# EAGLE library part NXP_MFRC52202HN1,151 (library Upverter Library)
IC RFID READER 13.56MHZ 32HVQFN
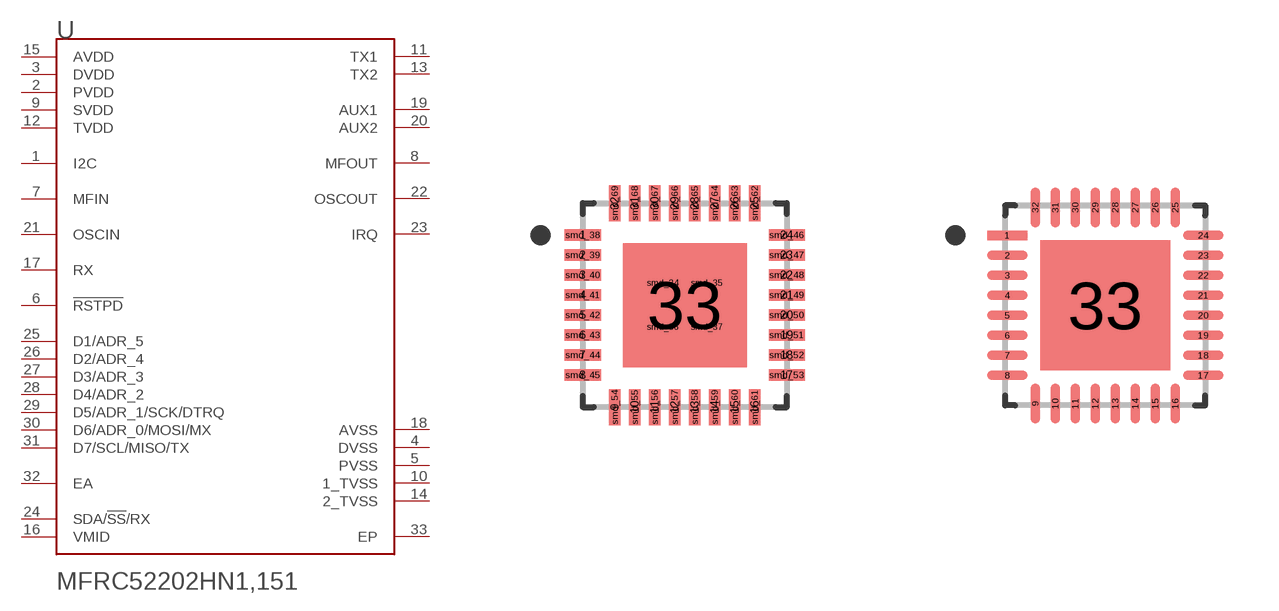
[diagram p0: symbol with the pads of NXP_MFRC52202HN1,151_0; footprints NXP_MFRC52202HN1,151_0, NXP_MFRC52202HN1,151_1]

Designator prefix U

## NXP_MFRC52202HN1,151NXP_MFRC52202HN1,151_0_0 (MF: NXP; MPN: MFRC52202HN1,151; ambient_temperature_range_high: +85°C; ambient_temperature_range_low: -25°C; automotive: No; centroid_not_specified: No; data_rate: 10Mbits/s; datasheet: https://www.nxp.com/docs/en/data-sheet/MFRC522.pdf; device_class_L1: Integrated Circuits (ICs); device_class_L2: RF Semiconductors and Devices; device_class_L3: Transceivers; digikey_description: IC RFID READER 13.56MHZ 32HVQFN; digikey_part_number: 568-8603-ND; footprint_parameters_1: {"fp_type":"QFN","params":{"N1":{"nom":8,"long name":"Leads on long side","min":null,"max":null,"short name":"N1","type":"count"},"N2":{"nom":8,"long name":"Leads on wide side","min":null,"max":null,"short name":"N2","type":"count"},"A":{"nom":false,"long name":"Height","min":false,"max":1000000,"short name":"A","type":"measurement"},"A1":{"nom":false,"long name":"Package clearance","min":0,"max":50000,"short name":"A1","type":"measurement"},"A2":{"nom":false,"long name":"Package height","min":false,"max":1000000,"short name":"A2","type":"measurement"},"D":{"nom":false,"long name":"Package length","min":4900000,"max":5100000,"short name":"D","type":"measurement"},"E":{"nom":false,"long name":"Package width","min":4900000,"max":5100000,"short name":"E","type":"measurement"},"B":{"nom":false,"long name":"Lead width","min":180000,"max":300000,"short name":"B","type":"measurement"},"C":{"nom":200000,"long name":"Lead thickness","min":null,"max":null,"short name":"C","type":"measurement"},"L":{"nom":false,"long name":"Lead foot length","min":300000,"max":500000,"short name":"L","type":"measurement"},"e":{"nom":500000,"long name":"Lead pitch","min":null,"max":null,"short name":"e","type":"measurement"},"HT":{"default":"Yes","long name":"Thermal pad","type":"multichoiceparent","short name":"HT","children":["D2","E2","PC"]},"offset x":{"nom":0,"long name":"X Center offset","min":null,"max":null,"short name":"offset x","type":"measurement"},"offset y":{"nom":0,"long name":"Y Center offset","min":null,"max":null,"short name":"offset y","type":"measurement"},"LS":{"default":"Rounded rectangle","long name":"Land shape","type":"multichoice","short name":"LS"},"LS1":{"default":"Rectangle","long name":"Land shape (Pin 1)","type":"multichoice","short name":"LS1"},"solder toe":{"nom":400000,"long name":"Solder fillet (toe)","min":null,"max":null,"short name":"solder toe","type":"fixedmeasurement"},"solder heel":{"nom":0,"long name":"Solder fillet (heel)","min":null,"max":null,"short name":"solder heel","type":"fixedmeasurement"},"solder side":{"nom":-40000,"long name":"Solder fillet (side)","min":null,"max":null,"short name":"solder side","type":"fixedmeasurement"},"courtyard":{"nom":500000,"long name":"Courtyard","min":null,"max":null,"short name":"courtyard","type":"fixedmeasurement"},"SF":{"default":"A","long name":"Packing level","type":"multichoiceparent","short name":"SF","help":"http://support.upverter.com/customer/portal/articles/978783-what-is-a-footprint-packing-level","children":["solder toe","solder heel","solder side","courtyard"]},"D2":{"nom":false,"long name":"Thermal pad length","min":2950000,"max":3250000,"short name":"D2","type":"measurement"},"E2":{"nom":false,"long name":"Thermal pad width","min":2950000,"max":3250000,"short name":"E2","type":"measurement"},"PC":{"long name":"Paste coverage (%)","type":"percentage","short name":"PC","value":40}}}; footprint_parameters_2: {"fp_type":"QFN","params":{"N1":{"nom":8,"long name":"Leads on long side","min":null,"max":null,"short name":"N1","type":"count"},"N2":{"nom":8,"long name":"Leads on wide side","min":null,"max":null,"short name":"N2","type":"count"},"A":{"nom":false,"long name":"Height","min":false,"max":1000000,"short name":"A","type":"measurement"},"A1":{"nom":false,"long name":"Package clearance","min":0,"max":50000,"short name":"A1","type":"measurement"},"A2":{"nom":false,"long name":"Package height","min":false,"max":1000000,"short name":"A2","type":"measurement"},"D":{"nom":false,"long name":"Package length","min":4900000,"max":5100000,"short name":"D","type":"measurement"},"E":{"nom":false,"long name":"Package width","min":4900000,"max":5100000,"short name":"E","type":"measurement"},"B":{"nom":false,"long name":"Lead width","min":180000,"max":300000,"short name":"B","type":"measurement"},"C":{"nom":200000,"long name":"Lead thickness","min":null,"max":null,"short name":"C","type":"measurement"},"L":{"nom":false,"long name":"Lead foot length","min":300000,"max":500000,"short name":"L","type":"measurement"},"e":{"nom":500000,"long name":"Lead pitch","min":null,"max":null,"short name":"e","type":"measurement"},"D2":{"nom":false,"long name":"Thermal pad length","min":2950000,"max":3250000,"short name":"D2","type":"measurement"},"E2":{"nom":false,"long name":"Thermal pad width","min":2950000,"max":3250000,"short name":"E2","type":"measurement"},"PC":{"long name":"Paste coverage (%)","type":"percentage","short name":"PC","value":40},"HT":{"default":"Yes","long name":"Thermal pad","type":"multichoiceparent","short name":"HT","children":["D2","E2","PC"]},"offset x":{"nom":0,"long name":"X Center offset","min":null,"max":null,"short name":"offset x","type":"measurement"},"offset y":{"nom":0,"long name":"Y Center offset","min":null,"max":null,"short name":"offset y","type":"measurement"},"LS":{"default":"Rounded rectangle","long name":"Land shape","type":"multichoice","short name":"LS"},"LS1":{"default":"Rectangle","long name":"Land shape (Pin 1)","type":"multichoice","short name":"LS1"},"solder toe":{"nom":300000,"long name":"Solder fillet (toe)","min":null,"max":null,"short name":"solder toe","type":"fixedmeasurement"},"solder heel":{"nom":0,"long name":"Solder fillet (heel)","min":null,"max":null,"short name":"solder heel","type":"fixedmeasurement"},"solder side":{"nom":-40000,"long name":"Solder fillet (side)","min":null,"max":null,"short name":"solder side","type":"fixedmeasurement"},"courtyard":{"nom":250000,"long name":"Courtyard","min":null,"max":null,"short name":"courtyard","type":"fixedmeasurement"},"SF":{"default":"B","long name":"Packing level","type":"multichoiceparent","short name":"SF","help":"http://support.upverter.com/customer/portal/articles/978783-what-is-a-footprint-packing-level","children":["solder toe","solder heel","solder side","courtyard"]}}}; footprint_parameters_3: {"fp_type":"QFN","params":{"N1":{"nom":8,"long name":"Leads on long side","min":null,"max":null,"short name":"N1","type":"count"},"N2":{"nom":8,"long name":"Leads on wide side","min":null,"max":null,"short name":"N2","type":"count"},"A":{"nom":false,"long name":"Height","min":false,"max":1000000,"short name":"A","type":"measurement"},"A1":{"nom":false,"long name":"Package clearance","min":0,"max":50000,"short name":"A1","type":"measurement"},"A2":{"nom":false,"long name":"Package height","min":false,"max":1000000,"short name":"A2","type":"measurement"},"D":{"nom":false,"long name":"Package length","min":4900000,"max":5100000,"short name":"D","type":"measurement"},"E":{"nom":false,"long name":"Package width","min":4900000,"max":5100000,"short name":"E","type":"measurement"},"B":{"nom":false,"long name":"Lead width","min":180000,"max":300000,"short name":"B","type":"measurement"},"C":{"nom":200000,"long name":"Lead thickness","min":null,"max":null,"short name":"C","type":"measurement"},"L":{"nom":false,"long name":"Lead foot length","min":300000,"max":500000,"short name":"L","type":"measurement"},"e":{"nom":500000,"long name":"Lead pitch","min":null,"max":null,"short name":"e","type":"measurement"},"D2":{"nom":false,"long name":"Thermal pad length","min":2950000,"max":3250000,"short name":"D2","type":"measurement"},"E2":{"nom":false,"long name":"Thermal pad width","min":2950000,"max":3250000,"short name":"E2","type":"measurement"},"PC":{"long name":"Paste coverage (%)","type":"percentage","short name":"PC","value":40},"HT":{"default":"Yes","long name":"Thermal pad","type":"multichoiceparent","short name":"HT","children":["D2","E2","PC"]},"offset x":{"nom":0,"long name":"X Center offset","min":null,"max":null,"short name":"offset x","type":"measurement"},"offset y":{"nom":0,"long name":"Y Center offset","min":null,"max":null,"short name":"offset y","type":"measurement"},"LS":{"default":"Rounded rectangle","long name":"Land shape","type":"multichoice","short name":"LS"},"LS1":{"default":"Rectangle","long name":"Land shape (Pin 1)","type":"multichoice","short name":"LS1"},"solder toe":{"nom":200000,"long name":"Solder fillet (toe)","min":null,"max":null,"short name":"solder toe","type":"fixedmeasurement"},"solder heel":{"nom":0,"long name":"Solder fillet (heel)","min":null,"max":null,"short name":"solder heel","type":"fixedmeasurement"},"solder side":{"nom":-40000,"long name":"Solder fillet (side)","min":null,"max":null,"short name":"solder side","type":"fixedmeasurement"},"courtyard":{"nom":100000,"long name":"Courtyard","min":null,"max":null,"short name":"courtyard","type":"fixedmeasurement"},"SF":{"default":"C","long name":"Packing level","type":"multichoiceparent","short name":"SF","help":"http://support.upverter.com/customer/portal/articles/978783-what-is-a-footprint-packing-level","children":["solder toe","solder heel","solder side","courtyard"]}}}; footprint_url: https://www.nxp.com/docs/en/package-information/SOT617-1.pdf; footprint_variant_name_0: Recommended_Land_Pattern; footprint_variant_name_1: IPC_A; footprint_variant_name_2: IPC_B; footprint_variant_name_3: IPC_C; height: 1mm; interface: I2C,SPI,UART,RS-232; lead_free: Yes; max_frequency: 13.56MHz; max_junction_temp: +100°C; max_power_dissipation: 200mW; max_supply_voltage: 3.6V; mfg_package_ident: SOT617-1; mfg_package_ident_date: 02/2016; mfg_package_ident_rev: 0; min_supply_voltage: 1.6V; mouser_description: RFID Transponders CONTACTLESS READER IC; mouser_part_number: 771-MFRC52202HN1151; nominal_supply_current: 3-60mA; package: VQFN32; prefix: U; rohs: Yes; standoff_height: 0mm; temperature_range_high: +100°C; verification_version: 0.0.0.3)  [NXP_MFRC52202HN1,151_0]
1  I2C  in
2  PVDD  pwr
3  DVDD  pwr
4  DVSS  pwr
5  PVSS  pwr
6  !RSTPD!  in
7  MFIN  in
8  MFOUT  out
9  SVDD  pwr
10  1_TVSS  pwr
11  TX1  out
12  TVDD  pwr
13  TX2  out
14  2_TVSS  pwr
15  AVDD  pwr
16  VMID  pwr
17  RX  in
18  AVSS  pwr
19  AUX1  out
20  AUX2  out
21  OSCIN  in
22  OSCOUT  out
23  IRQ  out
24  SDA/!SS!/RX
25  D1/ADR_5
26  D2/ADR_4
27  D3/ADR_3
28  D4/ADR_2
29  D5/ADR_1/SCK/DTRQ
30  D6/ADR_0/MOSI/MX
31  D7/SCL/MISO/TX
32  EA  in
33  EP  pwr

## NXP_MFRC52202HN1,151NXP_MFRC52202HN1,151_0_1 (MF: NXP; MPN: MFRC52202HN1,151; ambient_temperature_range_high: +85°C; ambient_temperature_range_low: -25°C; automotive: No; centroid_not_specified: No; data_rate: 10Mbits/s; datasheet: https://www.nxp.com/docs/en/data-sheet/MFRC522.pdf; device_class_L1: Integrated Circuits (ICs); device_class_L2: RF Semiconductors and Devices; device_class_L3: Transceivers; digikey_description: IC RFID READER 13.56MHZ 32HVQFN; digikey_part_number: 568-8603-ND; footprint_parameters_1: {"fp_type":"QFN","params":{"N1":{"nom":8,"long name":"Leads on long side","min":null,"max":null,"short name":"N1","type":"count"},"N2":{"nom":8,"long name":"Leads on wide side","min":null,"max":null,"short name":"N2","type":"count"},"A":{"nom":false,"long name":"Height","min":false,"max":1000000,"short name":"A","type":"measurement"},"A1":{"nom":false,"long name":"Package clearance","min":0,"max":50000,"short name":"A1","type":"measurement"},"A2":{"nom":false,"long name":"Package height","min":false,"max":1000000,"short name":"A2","type":"measurement"},"D":{"nom":false,"long name":"Package length","min":4900000,"max":5100000,"short name":"D","type":"measurement"},"E":{"nom":false,"long name":"Package width","min":4900000,"max":5100000,"short name":"E","type":"measurement"},"B":{"nom":false,"long name":"Lead width","min":180000,"max":300000,"short name":"B","type":"measurement"},"C":{"nom":200000,"long name":"Lead thickness","min":null,"max":null,"short name":"C","type":"measurement"},"L":{"nom":false,"long name":"Lead foot length","min":300000,"max":500000,"short name":"L","type":"measurement"},"e":{"nom":500000,"long name":"Lead pitch","min":null,"max":null,"short name":"e","type":"measurement"},"HT":{"default":"Yes","long name":"Thermal pad","type":"multichoiceparent","short name":"HT","children":["D2","E2","PC"]},"offset x":{"nom":0,"long name":"X Center offset","min":null,"max":null,"short name":"offset x","type":"measurement"},"offset y":{"nom":0,"long name":"Y Center offset","min":null,"max":null,"short name":"offset y","type":"measurement"},"LS":{"default":"Rounded rectangle","long name":"Land shape","type":"multichoice","short name":"LS"},"LS1":{"default":"Rectangle","long name":"Land shape (Pin 1)","type":"multichoice","short name":"LS1"},"solder toe":{"nom":400000,"long name":"Solder fillet (toe)","min":null,"max":null,"short name":"solder toe","type":"fixedmeasurement"},"solder heel":{"nom":0,"long name":"Solder fillet (heel)","min":null,"max":null,"short name":"solder heel","type":"fixedmeasurement"},"solder side":{"nom":-40000,"long name":"Solder fillet (side)","min":null,"max":null,"short name":"solder side","type":"fixedmeasurement"},"courtyard":{"nom":500000,"long name":"Courtyard","min":null,"max":null,"short name":"courtyard","type":"fixedmeasurement"},"SF":{"default":"A","long name":"Packing level","type":"multichoiceparent","short name":"SF","help":"http://support.upverter.com/customer/portal/articles/978783-what-is-a-footprint-packing-level","children":["solder toe","solder heel","solder side","courtyard"]},"D2":{"nom":false,"long name":"Thermal pad length","min":2950000,"max":3250000,"short name":"D2","type":"measurement"},"E2":{"nom":false,"long name":"Thermal pad width","min":2950000,"max":3250000,"short name":"E2","type":"measurement"},"PC":{"long name":"Paste coverage (%)","type":"percentage","short name":"PC","value":40}}}; footprint_parameters_2: {"fp_type":"QFN","params":{"N1":{"nom":8,"long name":"Leads on long side","min":null,"max":null,"short name":"N1","type":"count"},"N2":{"nom":8,"long name":"Leads on wide side","min":null,"max":null,"short name":"N2","type":"count"},"A":{"nom":false,"long name":"Height","min":false,"max":1000000,"short name":"A","type":"measurement"},"A1":{"nom":false,"long name":"Package clearance","min":0,"max":50000,"short name":"A1","type":"measurement"},"A2":{"nom":false,"long name":"Package height","min":false,"max":1000000,"short name":"A2","type":"measurement"},"D":{"nom":false,"long name":"Package length","min":4900000,"max":5100000,"short name":"D","type":"measurement"},"E":{"nom":false,"long name":"Package width","min":4900000,"max":5100000,"short name":"E","type":"measurement"},"B":{"nom":false,"long name":"Lead width","min":180000,"max":300000,"short name":"B","type":"measurement"},"C":{"nom":200000,"long name":"Lead thickness","min":null,"max":null,"short name":"C","type":"measurement"},"L":{"nom":false,"long name":"Lead foot length","min":300000,"max":500000,"short name":"L","type":"measurement"},"e":{"nom":500000,"long name":"Lead pitch","min":null,"max":null,"short name":"e","type":"measurement"},"D2":{"nom":false,"long name":"Thermal pad length","min":2950000,"max":3250000,"short name":"D2","type":"measurement"},"E2":{"nom":false,"long name":"Thermal pad width","min":2950000,"max":3250000,"short name":"E2","type":"measurement"},"PC":{"long name":"Paste coverage (%)","type":"percentage","short name":"PC","value":40},"HT":{"default":"Yes","long name":"Thermal pad","type":"multichoiceparent","short name":"HT","children":["D2","E2","PC"]},"offset x":{"nom":0,"long name":"X Center offset","min":null,"max":null,"short name":"offset x","type":"measurement"},"offset y":{"nom":0,"long name":"Y Center offset","min":null,"max":null,"short name":"offset y","type":"measurement"},"LS":{"default":"Rounded rectangle","long name":"Land shape","type":"multichoice","short name":"LS"},"LS1":{"default":"Rectangle","long name":"Land shape (Pin 1)","type":"multichoice","short name":"LS1"},"solder toe":{"nom":300000,"long name":"Solder fillet (toe)","min":null,"max":null,"short name":"solder toe","type":"fixedmeasurement"},"solder heel":{"nom":0,"long name":"Solder fillet (heel)","min":null,"max":null,"short name":"solder heel","type":"fixedmeasurement"},"solder side":{"nom":-40000,"long name":"Solder fillet (side)","min":null,"max":null,"short name":"solder side","type":"fixedmeasurement"},"courtyard":{"nom":250000,"long name":"Courtyard","min":null,"max":null,"short name":"courtyard","type":"fixedmeasurement"},"SF":{"default":"B","long name":"Packing level","type":"multichoiceparent","short name":"SF","help":"http://support.upverter.com/customer/portal/articles/978783-what-is-a-footprint-packing-level","children":["solder toe","solder heel","solder side","courtyard"]}}}; footprint_parameters_3: {"fp_type":"QFN","params":{"N1":{"nom":8,"long name":"Leads on long side","min":null,"max":null,"short name":"N1","type":"count"},"N2":{"nom":8,"long name":"Leads on wide side","min":null,"max":null,"short name":"N2","type":"count"},"A":{"nom":false,"long name":"Height","min":false,"max":1000000,"short name":"A","type":"measurement"},"A1":{"nom":false,"long name":"Package clearance","min":0,"max":50000,"short name":"A1","type":"measurement"},"A2":{"nom":false,"long name":"Package height","min":false,"max":1000000,"short name":"A2","type":"measurement"},"D":{"nom":false,"long name":"Package length","min":4900000,"max":5100000,"short name":"D","type":"measurement"},"E":{"nom":false,"long name":"Package width","min":4900000,"max":5100000,"short name":"E","type":"measurement"},"B":{"nom":false,"long name":"Lead width","min":180000,"max":300000,"short name":"B","type":"measurement"},"C":{"nom":200000,"long name":"Lead thickness","min":null,"max":null,"short name":"C","type":"measurement"},"L":{"nom":false,"long name":"Lead foot length","min":300000,"max":500000,"short name":"L","type":"measurement"},"e":{"nom":500000,"long name":"Lead pitch","min":null,"max":null,"short name":"e","type":"measurement"},"D2":{"nom":false,"long name":"Thermal pad length","min":2950000,"max":3250000,"short name":"D2","type":"measurement"},"E2":{"nom":false,"long name":"Thermal pad width","min":2950000,"max":3250000,"short name":"E2","type":"measurement"},"PC":{"long name":"Paste coverage (%)","type":"percentage","short name":"PC","value":40},"HT":{"default":"Yes","long name":"Thermal pad","type":"multichoiceparent","short name":"HT","children":["D2","E2","PC"]},"offset x":{"nom":0,"long name":"X Center offset","min":null,"max":null,"short name":"offset x","type":"measurement"},"offset y":{"nom":0,"long name":"Y Center offset","min":null,"max":null,"short name":"offset y","type":"measurement"},"LS":{"default":"Rounded rectangle","long name":"Land shape","type":"multichoice","short name":"LS"},"LS1":{"default":"Rectangle","long name":"Land shape (Pin 1)","type":"multichoice","short name":"LS1"},"solder toe":{"nom":200000,"long name":"Solder fillet (toe)","min":null,"max":null,"short name":"solder toe","type":"fixedmeasurement"},"solder heel":{"nom":0,"long name":"Solder fillet (heel)","min":null,"max":null,"short name":"solder heel","type":"fixedmeasurement"},"solder side":{"nom":-40000,"long name":"Solder fillet (side)","min":null,"max":null,"short name":"solder side","type":"fixedmeasurement"},"courtyard":{"nom":100000,"long name":"Courtyard","min":null,"max":null,"short name":"courtyard","type":"fixedmeasurement"},"SF":{"default":"C","long name":"Packing level","type":"multichoiceparent","short name":"SF","help":"http://support.upverter.com/customer/portal/articles/978783-what-is-a-footprint-packing-level","children":["solder toe","solder heel","solder side","courtyard"]}}}; footprint_url: https://www.nxp.com/docs/en/package-information/SOT617-1.pdf; footprint_variant_name_0: Recommended_Land_Pattern; footprint_variant_name_1: IPC_A; footprint_variant_name_2: IPC_B; footprint_variant_name_3: IPC_C; height: 1mm; interface: I2C,SPI,UART,RS-232; lead_free: Yes; max_frequency: 13.56MHz; max_junction_temp: +100°C; max_power_dissipation: 200mW; max_supply_voltage: 3.6V; mfg_package_ident: SOT617-1; mfg_package_ident_date: 02/2016; mfg_package_ident_rev: 0; min_supply_voltage: 1.6V; mouser_description: RFID Transponders CONTACTLESS READER IC; mouser_part_number: 771-MFRC52202HN1151; nominal_supply_current: 3-60mA; package: VQFN32; prefix: U; rohs: Yes; standoff_height: 0mm; temperature_range_high: +100°C; verification_version: 0.0.0.3)  [NXP_MFRC52202HN1,151_1]
Pads as for NXP_MFRC52202HN1,151_0

## NXP_MFRC52202HN1,151NXP_MFRC52202HN1,151_0_2 (MF: NXP; MPN: MFRC52202HN1,151; ambient_temperature_range_high: +85°C; ambient_temperature_range_low: -25°C; automotive: No; centroid_not_specified: No; data_rate: 10Mbits/s; datasheet: https://www.nxp.com/docs/en/data-sheet/MFRC522.pdf; device_class_L1: Integrated Circuits (ICs); device_class_L2: RF Semiconductors and Devices; device_class_L3: Transceivers; digikey_description: IC RFID READER 13.56MHZ 32HVQFN; digikey_part_number: 568-8603-ND; footprint_parameters_1: {"fp_type":"QFN","params":{"N1":{"nom":8,"long name":"Leads on long side","min":null,"max":null,"short name":"N1","type":"count"},"N2":{"nom":8,"long name":"Leads on wide side","min":null,"max":null,"short name":"N2","type":"count"},"A":{"nom":false,"long name":"Height","min":false,"max":1000000,"short name":"A","type":"measurement"},"A1":{"nom":false,"long name":"Package clearance","min":0,"max":50000,"short name":"A1","type":"measurement"},"A2":{"nom":false,"long name":"Package height","min":false,"max":1000000,"short name":"A2","type":"measurement"},"D":{"nom":false,"long name":"Package length","min":4900000,"max":5100000,"short name":"D","type":"measurement"},"E":{"nom":false,"long name":"Package width","min":4900000,"max":5100000,"short name":"E","type":"measurement"},"B":{"nom":false,"long name":"Lead width","min":180000,"max":300000,"short name":"B","type":"measurement"},"C":{"nom":200000,"long name":"Lead thickness","min":null,"max":null,"short name":"C","type":"measurement"},"L":{"nom":false,"long name":"Lead foot length","min":300000,"max":500000,"short name":"L","type":"measurement"},"e":{"nom":500000,"long name":"Lead pitch","min":null,"max":null,"short name":"e","type":"measurement"},"HT":{"default":"Yes","long name":"Thermal pad","type":"multichoiceparent","short name":"HT","children":["D2","E2","PC"]},"offset x":{"nom":0,"long name":"X Center offset","min":null,"max":null,"short name":"offset x","type":"measurement"},"offset y":{"nom":0,"long name":"Y Center offset","min":null,"max":null,"short name":"offset y","type":"measurement"},"LS":{"default":"Rounded rectangle","long name":"Land shape","type":"multichoice","short name":"LS"},"LS1":{"default":"Rectangle","long name":"Land shape (Pin 1)","type":"multichoice","short name":"LS1"},"solder toe":{"nom":400000,"long name":"Solder fillet (toe)","min":null,"max":null,"short name":"solder toe","type":"fixedmeasurement"},"solder heel":{"nom":0,"long name":"Solder fillet (heel)","min":null,"max":null,"short name":"solder heel","type":"fixedmeasurement"},"solder side":{"nom":-40000,"long name":"Solder fillet (side)","min":null,"max":null,"short name":"solder side","type":"fixedmeasurement"},"courtyard":{"nom":500000,"long name":"Courtyard","min":null,"max":null,"short name":"courtyard","type":"fixedmeasurement"},"SF":{"default":"A","long name":"Packing level","type":"multichoiceparent","short name":"SF","help":"http://support.upverter.com/customer/portal/articles/978783-what-is-a-footprint-packing-level","children":["solder toe","solder heel","solder side","courtyard"]},"D2":{"nom":false,"long name":"Thermal pad length","min":2950000,"max":3250000,"short name":"D2","type":"measurement"},"E2":{"nom":false,"long name":"Thermal pad width","min":2950000,"max":3250000,"short name":"E2","type":"measurement"},"PC":{"long name":"Paste coverage (%)","type":"percentage","short name":"PC","value":40}}}; footprint_parameters_2: {"fp_type":"QFN","params":{"N1":{"nom":8,"long name":"Leads on long side","min":null,"max":null,"short name":"N1","type":"count"},"N2":{"nom":8,"long name":"Leads on wide side","min":null,"max":null,"short name":"N2","type":"count"},"A":{"nom":false,"long name":"Height","min":false,"max":1000000,"short name":"A","type":"measurement"},"A1":{"nom":false,"long name":"Package clearance","min":0,"max":50000,"short name":"A1","type":"measurement"},"A2":{"nom":false,"long name":"Package height","min":false,"max":1000000,"short name":"A2","type":"measurement"},"D":{"nom":false,"long name":"Package length","min":4900000,"max":5100000,"short name":"D","type":"measurement"},"E":{"nom":false,"long name":"Package width","min":4900000,"max":5100000,"short name":"E","type":"measurement"},"B":{"nom":false,"long name":"Lead width","min":180000,"max":300000,"short name":"B","type":"measurement"},"C":{"nom":200000,"long name":"Lead thickness","min":null,"max":null,"short name":"C","type":"measurement"},"L":{"nom":false,"long name":"Lead foot length","min":300000,"max":500000,"short name":"L","type":"measurement"},"e":{"nom":500000,"long name":"Lead pitch","min":null,"max":null,"short name":"e","type":"measurement"},"D2":{"nom":false,"long name":"Thermal pad length","min":2950000,"max":3250000,"short name":"D2","type":"measurement"},"E2":{"nom":false,"long name":"Thermal pad width","min":2950000,"max":3250000,"short name":"E2","type":"measurement"},"PC":{"long name":"Paste coverage (%)","type":"percentage","short name":"PC","value":40},"HT":{"default":"Yes","long name":"Thermal pad","type":"multichoiceparent","short name":"HT","children":["D2","E2","PC"]},"offset x":{"nom":0,"long name":"X Center offset","min":null,"max":null,"short name":"offset x","type":"measurement"},"offset y":{"nom":0,"long name":"Y Center offset","min":null,"max":null,"short name":"offset y","type":"measurement"},"LS":{"default":"Rounded rectangle","long name":"Land shape","type":"multichoice","short name":"LS"},"LS1":{"default":"Rectangle","long name":"Land shape (Pin 1)","type":"multichoice","short name":"LS1"},"solder toe":{"nom":300000,"long name":"Solder fillet (toe)","min":null,"max":null,"short name":"solder toe","type":"fixedmeasurement"},"solder heel":{"nom":0,"long name":"Solder fillet (heel)","min":null,"max":null,"short name":"solder heel","type":"fixedmeasurement"},"solder side":{"nom":-40000,"long name":"Solder fillet (side)","min":null,"max":null,"short name":"solder side","type":"fixedmeasurement"},"courtyard":{"nom":250000,"long name":"Courtyard","min":null,"max":null,"short name":"courtyard","type":"fixedmeasurement"},"SF":{"default":"B","long name":"Packing level","type":"multichoiceparent","short name":"SF","help":"http://support.upverter.com/customer/portal/articles/978783-what-is-a-footprint-packing-level","children":["solder toe","solder heel","solder side","courtyard"]}}}; footprint_parameters_3: {"fp_type":"QFN","params":{"N1":{"nom":8,"long name":"Leads on long side","min":null,"max":null,"short name":"N1","type":"count"},"N2":{"nom":8,"long name":"Leads on wide side","min":null,"max":null,"short name":"N2","type":"count"},"A":{"nom":false,"long name":"Height","min":false,"max":1000000,"short name":"A","type":"measurement"},"A1":{"nom":false,"long name":"Package clearance","min":0,"max":50000,"short name":"A1","type":"measurement"},"A2":{"nom":false,"long name":"Package height","min":false,"max":1000000,"short name":"A2","type":"measurement"},"D":{"nom":false,"long name":"Package length","min":4900000,"max":5100000,"short name":"D","type":"measurement"},"E":{"nom":false,"long name":"Package width","min":4900000,"max":5100000,"short name":"E","type":"measurement"},"B":{"nom":false,"long name":"Lead width","min":180000,"max":300000,"short name":"B","type":"measurement"},"C":{"nom":200000,"long name":"Lead thickness","min":null,"max":null,"short name":"C","type":"measurement"},"L":{"nom":false,"long name":"Lead foot length","min":300000,"max":500000,"short name":"L","type":"measurement"},"e":{"nom":500000,"long name":"Lead pitch","min":null,"max":null,"short name":"e","type":"measurement"},"D2":{"nom":false,"long name":"Thermal pad length","min":2950000,"max":3250000,"short name":"D2","type":"measurement"},"E2":{"nom":false,"long name":"Thermal pad width","min":2950000,"max":3250000,"short name":"E2","type":"measurement"},"PC":{"long name":"Paste coverage (%)","type":"percentage","short name":"PC","value":40},"HT":{"default":"Yes","long name":"Thermal pad","type":"multichoiceparent","short name":"HT","children":["D2","E2","PC"]},"offset x":{"nom":0,"long name":"X Center offset","min":null,"max":null,"short name":"offset x","type":"measurement"},"offset y":{"nom":0,"long name":"Y Center offset","min":null,"max":null,"short name":"offset y","type":"measurement"},"LS":{"default":"Rounded rectangle","long name":"Land shape","type":"multichoice","short name":"LS"},"LS1":{"default":"Rectangle","long name":"Land shape (Pin 1)","type":"multichoice","short name":"LS1"},"solder toe":{"nom":200000,"long name":"Solder fillet (toe)","min":null,"max":null,"short name":"solder toe","type":"fixedmeasurement"},"solder heel":{"nom":0,"long name":"Solder fillet (heel)","min":null,"max":null,"short name":"solder heel","type":"fixedmeasurement"},"solder side":{"nom":-40000,"long name":"Solder fillet (side)","min":null,"max":null,"short name":"solder side","type":"fixedmeasurement"},"courtyard":{"nom":100000,"long name":"Courtyard","min":null,"max":null,"short name":"courtyard","type":"fixedmeasurement"},"SF":{"default":"C","long name":"Packing level","type":"multichoiceparent","short name":"SF","help":"http://support.upverter.com/customer/portal/articles/978783-what-is-a-footprint-packing-level","children":["solder toe","solder heel","solder side","courtyard"]}}}; footprint_url: https://www.nxp.com/docs/en/package-information/SOT617-1.pdf; footprint_variant_name_0: Recommended_Land_Pattern; footprint_variant_name_1: IPC_A; footprint_variant_name_2: IPC_B; footprint_variant_name_3: IPC_C; height: 1mm; interface: I2C,SPI,UART,RS-232; lead_free: Yes; max_frequency: 13.56MHz; max_junction_temp: +100°C; max_power_dissipation: 200mW; max_supply_voltage: 3.6V; mfg_package_ident: SOT617-1; mfg_package_ident_date: 02/2016; mfg_package_ident_rev: 0; min_supply_voltage: 1.6V; mouser_description: RFID Transponders CONTACTLESS READER IC; mouser_part_number: 771-MFRC52202HN1151; nominal_supply_current: 3-60mA; package: VQFN32; prefix: U; rohs: Yes; standoff_height: 0mm; temperature_range_high: +100°C; verification_version: 0.0.0.3)  [NXP_MFRC52202HN1,151_2]
Pads as for NXP_MFRC52202HN1,151_0

## NXP_MFRC52202HN1,151NXP_MFRC52202HN1,151_0_3 (MF: NXP; MPN: MFRC52202HN1,151; ambient_temperature_range_high: +85°C; ambient_temperature_range_low: -25°C; automotive: No; centroid_not_specified: No; data_rate: 10Mbits/s; datasheet: https://www.nxp.com/docs/en/data-sheet/MFRC522.pdf; device_class_L1: Integrated Circuits (ICs); device_class_L2: RF Semiconductors and Devices; device_class_L3: Transceivers; digikey_description: IC RFID READER 13.56MHZ 32HVQFN; digikey_part_number: 568-8603-ND; footprint_parameters_1: {"fp_type":"QFN","params":{"N1":{"nom":8,"long name":"Leads on long side","min":null,"max":null,"short name":"N1","type":"count"},"N2":{"nom":8,"long name":"Leads on wide side","min":null,"max":null,"short name":"N2","type":"count"},"A":{"nom":false,"long name":"Height","min":false,"max":1000000,"short name":"A","type":"measurement"},"A1":{"nom":false,"long name":"Package clearance","min":0,"max":50000,"short name":"A1","type":"measurement"},"A2":{"nom":false,"long name":"Package height","min":false,"max":1000000,"short name":"A2","type":"measurement"},"D":{"nom":false,"long name":"Package length","min":4900000,"max":5100000,"short name":"D","type":"measurement"},"E":{"nom":false,"long name":"Package width","min":4900000,"max":5100000,"short name":"E","type":"measurement"},"B":{"nom":false,"long name":"Lead width","min":180000,"max":300000,"short name":"B","type":"measurement"},"C":{"nom":200000,"long name":"Lead thickness","min":null,"max":null,"short name":"C","type":"measurement"},"L":{"nom":false,"long name":"Lead foot length","min":300000,"max":500000,"short name":"L","type":"measurement"},"e":{"nom":500000,"long name":"Lead pitch","min":null,"max":null,"short name":"e","type":"measurement"},"HT":{"default":"Yes","long name":"Thermal pad","type":"multichoiceparent","short name":"HT","children":["D2","E2","PC"]},"offset x":{"nom":0,"long name":"X Center offset","min":null,"max":null,"short name":"offset x","type":"measurement"},"offset y":{"nom":0,"long name":"Y Center offset","min":null,"max":null,"short name":"offset y","type":"measurement"},"LS":{"default":"Rounded rectangle","long name":"Land shape","type":"multichoice","short name":"LS"},"LS1":{"default":"Rectangle","long name":"Land shape (Pin 1)","type":"multichoice","short name":"LS1"},"solder toe":{"nom":400000,"long name":"Solder fillet (toe)","min":null,"max":null,"short name":"solder toe","type":"fixedmeasurement"},"solder heel":{"nom":0,"long name":"Solder fillet (heel)","min":null,"max":null,"short name":"solder heel","type":"fixedmeasurement"},"solder side":{"nom":-40000,"long name":"Solder fillet (side)","min":null,"max":null,"short name":"solder side","type":"fixedmeasurement"},"courtyard":{"nom":500000,"long name":"Courtyard","min":null,"max":null,"short name":"courtyard","type":"fixedmeasurement"},"SF":{"default":"A","long name":"Packing level","type":"multichoiceparent","short name":"SF","help":"http://support.upverter.com/customer/portal/articles/978783-what-is-a-footprint-packing-level","children":["solder toe","solder heel","solder side","courtyard"]},"D2":{"nom":false,"long name":"Thermal pad length","min":2950000,"max":3250000,"short name":"D2","type":"measurement"},"E2":{"nom":false,"long name":"Thermal pad width","min":2950000,"max":3250000,"short name":"E2","type":"measurement"},"PC":{"long name":"Paste coverage (%)","type":"percentage","short name":"PC","value":40}}}; footprint_parameters_2: {"fp_type":"QFN","params":{"N1":{"nom":8,"long name":"Leads on long side","min":null,"max":null,"short name":"N1","type":"count"},"N2":{"nom":8,"long name":"Leads on wide side","min":null,"max":null,"short name":"N2","type":"count"},"A":{"nom":false,"long name":"Height","min":false,"max":1000000,"short name":"A","type":"measurement"},"A1":{"nom":false,"long name":"Package clearance","min":0,"max":50000,"short name":"A1","type":"measurement"},"A2":{"nom":false,"long name":"Package height","min":false,"max":1000000,"short name":"A2","type":"measurement"},"D":{"nom":false,"long name":"Package length","min":4900000,"max":5100000,"short name":"D","type":"measurement"},"E":{"nom":false,"long name":"Package width","min":4900000,"max":5100000,"short name":"E","type":"measurement"},"B":{"nom":false,"long name":"Lead width","min":180000,"max":300000,"short name":"B","type":"measurement"},"C":{"nom":200000,"long name":"Lead thickness","min":null,"max":null,"short name":"C","type":"measurement"},"L":{"nom":false,"long name":"Lead foot length","min":300000,"max":500000,"short name":"L","type":"measurement"},"e":{"nom":500000,"long name":"Lead pitch","min":null,"max":null,"short name":"e","type":"measurement"},"D2":{"nom":false,"long name":"Thermal pad length","min":2950000,"max":3250000,"short name":"D2","type":"measurement"},"E2":{"nom":false,"long name":"Thermal pad width","min":2950000,"max":3250000,"short name":"E2","type":"measurement"},"PC":{"long name":"Paste coverage (%)","type":"percentage","short name":"PC","value":40},"HT":{"default":"Yes","long name":"Thermal pad","type":"multichoiceparent","short name":"HT","children":["D2","E2","PC"]},"offset x":{"nom":0,"long name":"X Center offset","min":null,"max":null,"short name":"offset x","type":"measurement"},"offset y":{"nom":0,"long name":"Y Center offset","min":null,"max":null,"short name":"offset y","type":"measurement"},"LS":{"default":"Rounded rectangle","long name":"Land shape","type":"multichoice","short name":"LS"},"LS1":{"default":"Rectangle","long name":"Land shape (Pin 1)","type":"multichoice","short name":"LS1"},"solder toe":{"nom":300000,"long name":"Solder fillet (toe)","min":null,"max":null,"short name":"solder toe","type":"fixedmeasurement"},"solder heel":{"nom":0,"long name":"Solder fillet (heel)","min":null,"max":null,"short name":"solder heel","type":"fixedmeasurement"},"solder side":{"nom":-40000,"long name":"Solder fillet (side)","min":null,"max":null,"short name":"solder side","type":"fixedmeasurement"},"courtyard":{"nom":250000,"long name":"Courtyard","min":null,"max":null,"short name":"courtyard","type":"fixedmeasurement"},"SF":{"default":"B","long name":"Packing level","type":"multichoiceparent","short name":"SF","help":"http://support.upverter.com/customer/portal/articles/978783-what-is-a-footprint-packing-level","children":["solder toe","solder heel","solder side","courtyard"]}}}; footprint_parameters_3: {"fp_type":"QFN","params":{"N1":{"nom":8,"long name":"Leads on long side","min":null,"max":null,"short name":"N1","type":"count"},"N2":{"nom":8,"long name":"Leads on wide side","min":null,"max":null,"short name":"N2","type":"count"},"A":{"nom":false,"long name":"Height","min":false,"max":1000000,"short name":"A","type":"measurement"},"A1":{"nom":false,"long name":"Package clearance","min":0,"max":50000,"short name":"A1","type":"measurement"},"A2":{"nom":false,"long name":"Package height","min":false,"max":1000000,"short name":"A2","type":"measurement"},"D":{"nom":false,"long name":"Package length","min":4900000,"max":5100000,"short name":"D","type":"measurement"},"E":{"nom":false,"long name":"Package width","min":4900000,"max":5100000,"short name":"E","type":"measurement"},"B":{"nom":false,"long name":"Lead width","min":180000,"max":300000,"short name":"B","type":"measurement"},"C":{"nom":200000,"long name":"Lead thickness","min":null,"max":null,"short name":"C","type":"measurement"},"L":{"nom":false,"long name":"Lead foot length","min":300000,"max":500000,"short name":"L","type":"measurement"},"e":{"nom":500000,"long name":"Lead pitch","min":null,"max":null,"short name":"e","type":"measurement"},"D2":{"nom":false,"long name":"Thermal pad length","min":2950000,"max":3250000,"short name":"D2","type":"measurement"},"E2":{"nom":false,"long name":"Thermal pad width","min":2950000,"max":3250000,"short name":"E2","type":"measurement"},"PC":{"long name":"Paste coverage (%)","type":"percentage","short name":"PC","value":40},"HT":{"default":"Yes","long name":"Thermal pad","type":"multichoiceparent","short name":"HT","children":["D2","E2","PC"]},"offset x":{"nom":0,"long name":"X Center offset","min":null,"max":null,"short name":"offset x","type":"measurement"},"offset y":{"nom":0,"long name":"Y Center offset","min":null,"max":null,"short name":"offset y","type":"measurement"},"LS":{"default":"Rounded rectangle","long name":"Land shape","type":"multichoice","short name":"LS"},"LS1":{"default":"Rectangle","long name":"Land shape (Pin 1)","type":"multichoice","short name":"LS1"},"solder toe":{"nom":200000,"long name":"Solder fillet (toe)","min":null,"max":null,"short name":"solder toe","type":"fixedmeasurement"},"solder heel":{"nom":0,"long name":"Solder fillet (heel)","min":null,"max":null,"short name":"solder heel","type":"fixedmeasurement"},"solder side":{"nom":-40000,"long name":"Solder fillet (side)","min":null,"max":null,"short name":"solder side","type":"fixedmeasurement"},"courtyard":{"nom":100000,"long name":"Courtyard","min":null,"max":null,"short name":"courtyard","type":"fixedmeasurement"},"SF":{"default":"C","long name":"Packing level","type":"multichoiceparent","short name":"SF","help":"http://support.upverter.com/customer/portal/articles/978783-what-is-a-footprint-packing-level","children":["solder toe","solder heel","solder side","courtyard"]}}}; footprint_url: https://www.nxp.com/docs/en/package-information/SOT617-1.pdf; footprint_variant_name_0: Recommended_Land_Pattern; footprint_variant_name_1: IPC_A; footprint_variant_name_2: IPC_B; footprint_variant_name_3: IPC_C; height: 1mm; interface: I2C,SPI,UART,RS-232; lead_free: Yes; max_frequency: 13.56MHz; max_junction_temp: +100°C; max_power_dissipation: 200mW; max_supply_voltage: 3.6V; mfg_package_ident: SOT617-1; mfg_package_ident_date: 02/2016; mfg_package_ident_rev: 0; min_supply_voltage: 1.6V; mouser_description: RFID Transponders CONTACTLESS READER IC; mouser_part_number: 771-MFRC52202HN1151; nominal_supply_current: 3-60mA; package: VQFN32; prefix: U; rohs: Yes; standoff_height: 0mm; temperature_range_high: +100°C; verification_version: 0.0.0.3)  [NXP_MFRC52202HN1,151_3]
Pads as for NXP_MFRC52202HN1,151_0

## Footprint NXP_MFRC52202HN1,151_0 (pad centres in mm)
IC RFID READER 13.56MHZ 32HVQFN
smd 0.9 x 0.29: 1 -2.55,1.75; 2 -2.55,1.25; 3 -2.55,0.75; 4 -2.55,0.25; 5 -2.55,-0.25; 6 -2.55,-0.75; 7 -2.55,-1.25; 8 -2.55,-1.75; 17 2.55,-1.75; 18 2.55,-1.25; 19 2.55,-0.75; 20 2.55,-0.25; 21 2.55,0.25; 22 2.55,0.75; 23 2.55,1.25; 24 2.55,1.75
smd 0.29 x 0.9: 9 -1.75,-2.55; 10 -1.25,-2.55; 11 -0.75,-2.55; 12 -0.25,-2.55; 13 0.25,-2.55; 14 0.75,-2.55; 15 1.25,-2.55; 16 1.75,-2.55; 25 1.75,2.55; 26 1.25,2.55; 27 0.75,2.55; 28 0.25,2.55; 29 -0.25,2.55; 30 -0.75,2.55; 31 -1.25,2.55; 32 -1.75,2.55
smd 3.1 x 3.1: 33 0,0
smd 0.7 x 0.7: smd_34 -0.55,0.55; smd_35 0.55,0.55; smd_36 -0.55,-0.55; smd_37 0.55,-0.55
smd 0.85 x 0.24: smd_38 -2.55,1.75; smd_39 -2.55,1.25; smd_40 -2.55,0.75; smd_41 -2.55,0.25; smd_42 -2.55,-0.25; smd_43 -2.55,-0.75; smd_44 -2.55,-1.25; smd_45 -2.55,-1.75; smd_46 2.55,1.75; smd_47 2.55,1.25; smd_48 2.55,0.75; smd_49 2.55,0.25; smd_50 2.55,-0.25; smd_51 2.55,-0.75; smd_52 2.55,-1.25; smd_53 2.55,-1.75
smd 0.24 x 0.85: smd_54 -1.75,-2.55; smd_55 -1.25,-2.55; smd_56 -0.75,-2.55; smd_57 -0.25,-2.55; smd_58 0.25,-2.55; smd_59 0.75,-2.55; smd_60 1.25,-2.55; smd_61 1.75,-2.55; smd_62 1.75,2.55; smd_63 1.25,2.55; smd_64 0.75,2.55; smd_65 0.25,2.55; smd_66 -0.25,2.55; smd_67 -0.75,2.55; smd_68 -1.25,2.55; smd_69 -1.75,2.55

## Footprint NXP_MFRC52202HN1,151_1 (pad centres in mm)
IC RFID READER 13.56MHZ 32HVQFN
smd 1.01 x 0.239: 1 -2.451,1.75; 2 -2.451,1.25; 3 -2.451,0.75; 4 -2.451,0.25; 5 -2.451,-0.25; 6 -2.451,-0.75; 7 -2.451,-1.25; 8 -2.451,-1.75; 17 2.451,-1.75; 18 2.451,-1.25; 19 2.451,-0.75; 20 2.451,-0.25; 21 2.451,0.25; 22 2.451,0.75; 23 2.451,1.25; 24 2.451,1.75
smd 0.239 x 1.01: 9 -1.75,-2.451; 10 -1.25,-2.451; 11 -0.75,-2.451; 12 -0.25,-2.451; 13 0.25,-2.451; 14 0.75,-2.451; 15 1.25,-2.451; 16 1.75,-2.451; 25 1.75,2.451; 26 1.25,2.451; 27 0.75,2.451; 28 0.25,2.451; 29 -0.25,2.451; 30 -0.75,2.451; 31 -1.25,2.451; 32 -1.75,2.451
smd 3.25 x 3.25: 33 0,0

## Footprint NXP_MFRC52202HN1,151_2 (pad centres in mm)
IC RFID READER 13.56MHZ 32HVQFN
smd 0.91 x 0.239: 1 -2.401,1.75; 2 -2.401,1.25; 3 -2.401,0.75; 4 -2.401,0.25; 5 -2.401,-0.25; 6 -2.401,-0.75; 7 -2.401,-1.25; 8 -2.401,-1.75; 17 2.401,-1.75; 18 2.401,-1.25; 19 2.401,-0.75; 20 2.401,-0.25; 21 2.401,0.25; 22 2.401,0.75; 23 2.401,1.25; 24 2.401,1.75
smd 0.239 x 0.91: 9 -1.75,-2.401; 10 -1.25,-2.401; 11 -0.75,-2.401; 12 -0.25,-2.401; 13 0.25,-2.401; 14 0.75,-2.401; 15 1.25,-2.401; 16 1.75,-2.401; 25 1.75,2.401; 26 1.25,2.401; 27 0.75,2.401; 28 0.25,2.401; 29 -0.25,2.401; 30 -0.75,2.401; 31 -1.25,2.401; 32 -1.75,2.401
smd 3.25 x 3.25: 33 0,0

## Footprint NXP_MFRC52202HN1,151_3 (pad centres in mm)
IC RFID READER 13.56MHZ 32HVQFN
smd 0.81 x 0.239: 1 -2.351,1.75; 2 -2.351,1.25; 3 -2.351,0.75; 4 -2.351,0.25; 5 -2.351,-0.25; 6 -2.351,-0.75; 7 -2.351,-1.25; 8 -2.351,-1.75; 17 2.351,-1.75; 18 2.351,-1.25; 19 2.351,-0.75; 20 2.351,-0.25; 21 2.351,0.25; 22 2.351,0.75; 23 2.351,1.25; 24 2.351,1.75
smd 0.239 x 0.81: 9 -1.75,-2.351; 10 -1.25,-2.351; 11 -0.75,-2.351; 12 -0.25,-2.351; 13 0.25,-2.351; 14 0.75,-2.351; 15 1.25,-2.351; 16 1.75,-2.351; 25 1.75,2.351; 26 1.25,2.351; 27 0.75,2.351; 28 0.25,2.351; 29 -0.25,2.351; 30 -0.75,2.351; 31 -1.25,2.351; 32 -1.75,2.351
smd 3.25 x 3.25: 33 0,0